# Altium footprint library 4.5X4.5X7-3L.PcbLib: 1 footprints
Each footprint in its own frame and in the unit in brackets; x right, y up, seen from the top. Pads: shape width x height; smd on the part's side, far side on the other; paste and mask are expansions set on the pad; w line width, h text height; cw(c..) or ccw(c..) is an arc to the next point about the centre after c.
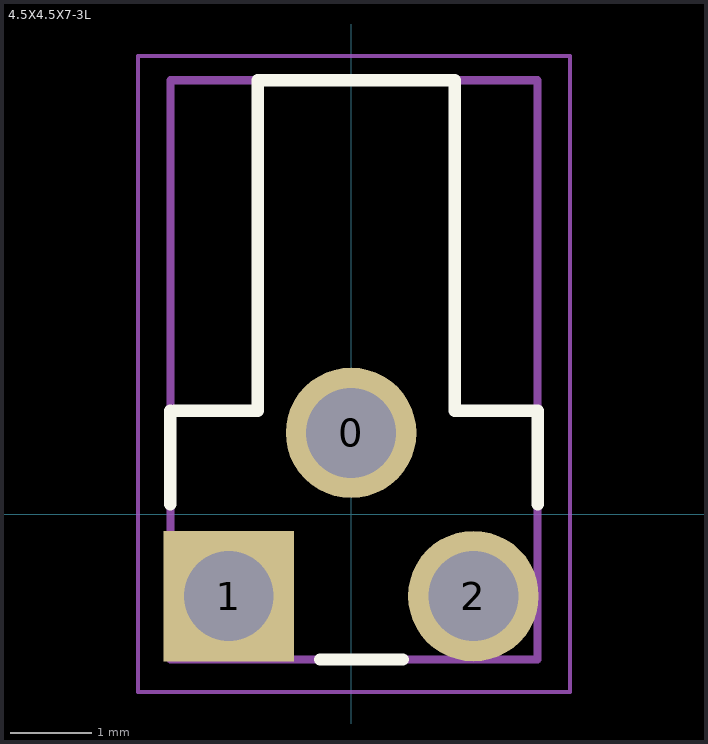
[diagram p0: the footprint, top view; thin cyan lines are the x and y axes]

## 4.5X4.5X7-3L [mm] "Pitch 3mm Body 4.5x4.5 mm High7mm"
height 7
pads (3):
  round 1.6 hole 1.1: 0(0,1) 2(1.5,-1)
  rect 1.6x1.6 hole 1.1: 1(-1.5,-1)
Top Overlay:
  lines w0.152: -2.214,0.127 -2.214,1.27 ; -2.159,1.27 -1.143,1.27 -1.143,5.322 1.27,5.322 1.27,1.27 2.286,1.27 2.286,0.127 ; -0.381,-1.778 0.635,-1.778
Mechanical 13:
  lines w0.1: -2.214,-1.778 -2.214,5.322 2.286,5.322 2.286,-1.778 -2.214,-1.778
Mechanical 15:
  lines w0.05: -2.614,-2.178 -2.614,5.622 2.686,5.622 2.686,-2.178 -2.614,-2.178
3D body: height 4.51, standoff -2.1, extent -2.214,-1.778 2.286,5.322